# Altium footprint library CON5x2_SHUNT_2.54mm.PcbLib: 1 footprints
Each footprint in its own frame and in the unit in brackets; x right, y up, seen from the top. Pads: shape width x height; smd on the part's side, far side on the other; paste and mask are expansions set on the pad; w line width, h text height; cw(c..) or ccw(c..) is an arc to the next point about the centre after c.

## CON5x2_SHUNT_2.54mm [mm]
3D body "MNT-105-BK-G.stp": height 10.16, standoff 4.06, extent -6.35,-2.54 6.35,2.54